# Altium footprint library ECA Capacitor Radial.PcbLib: 13 footprints
Each footprint in its own frame and in the unit in brackets; x right, y up, seen from the top. Pads: shape width x height; smd on the part's side, far side on the other; paste and mask are expansions set on the pad; w line width, h text height; cw(c..) or ccw(c..) is an arc to the next point about the centre after c.
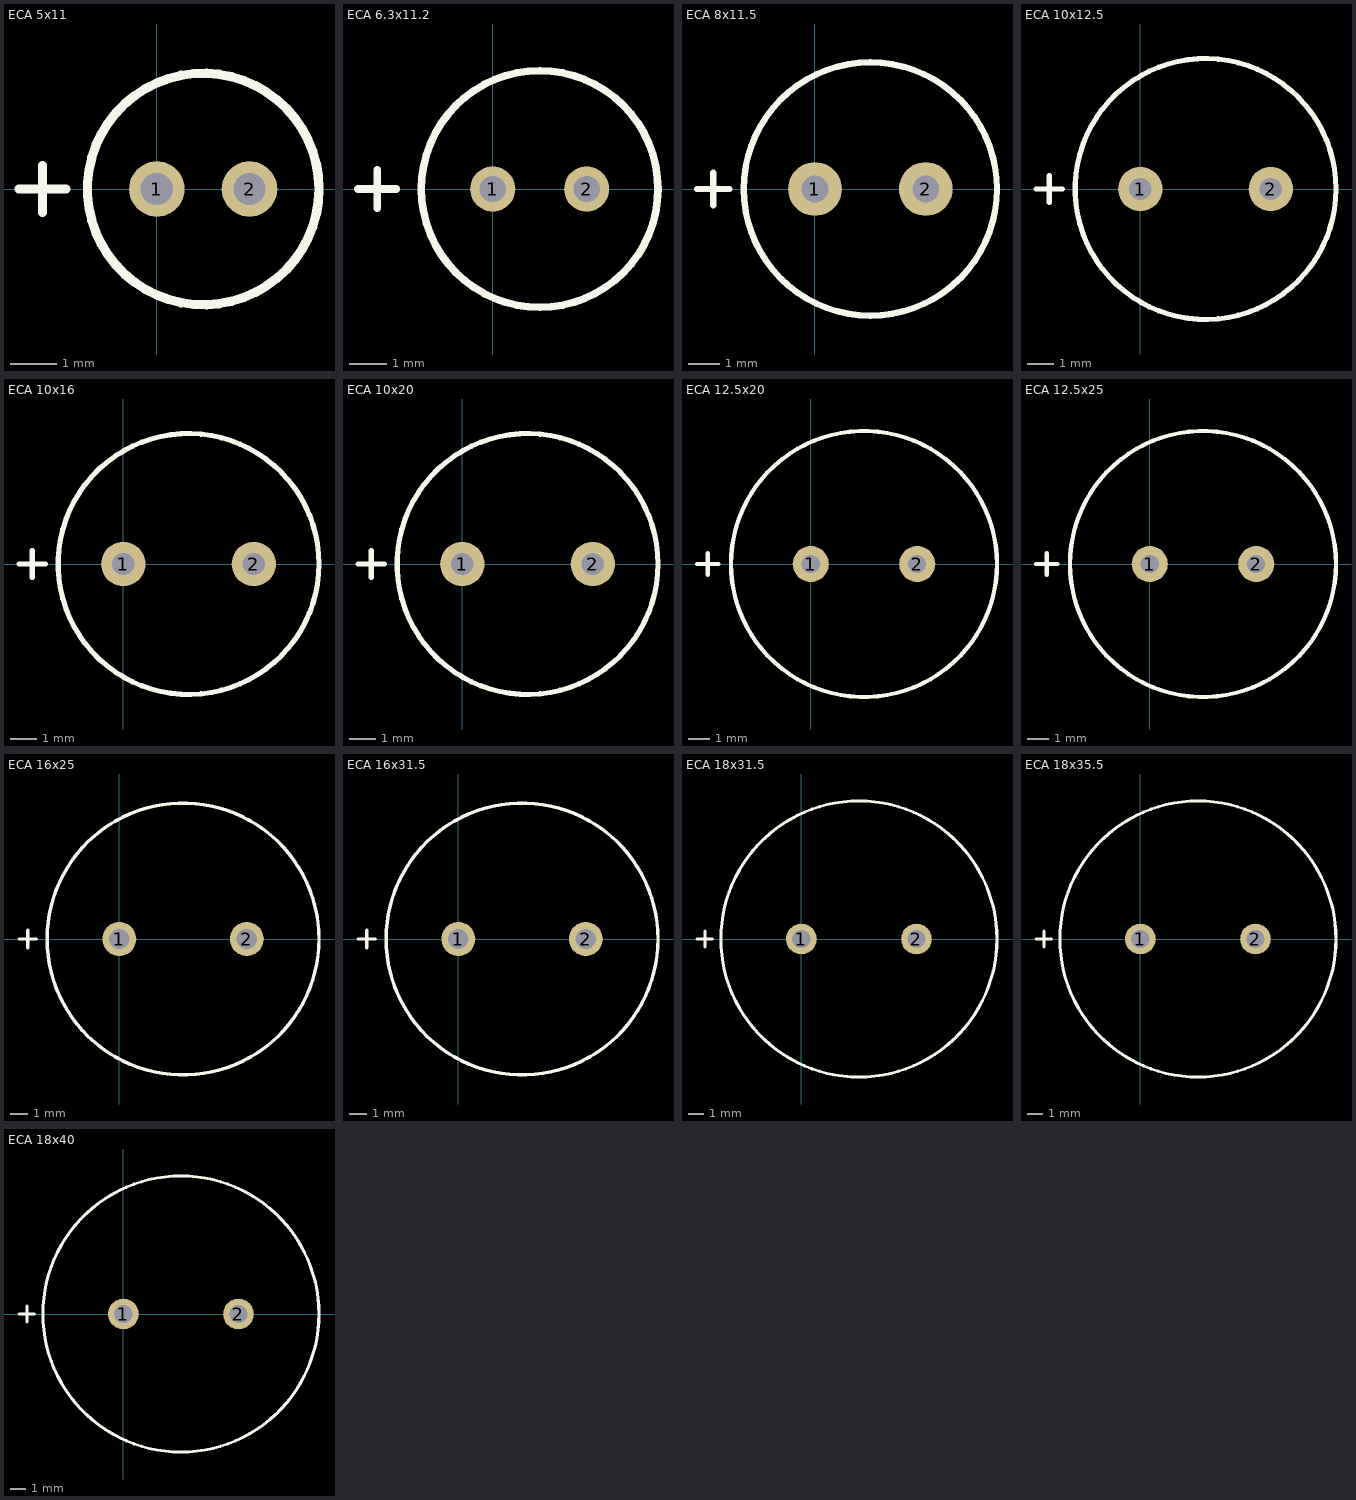
[diagram p0: the footprints below, top view; thin cyan lines are the x and y axes]

## ECA 5x11 [mm]
pads (2):
  round 1.2 hole 0.7: 1(0,0) 2(2,0)
Top Overlay:
  circle w0.2: c1,0 r2.5
  lines w0.2: -2.977,0 -1.961,0 ; -2.469,-0.508 -2.469,0.508
3D body: height 11, standoff 0, extent -1.512,-2.512 3.512,2.512

## ECA 6.3x11.2 [mm]
pads (2):
  round 1.2 hole 0.7: 1(0,0) 2(2.5,0)
Top Overlay:
  circle w0.2: c1.25,0 r3.15
  lines w0.2: -3.586,0 -2.57,0 ; -3.078,-0.508 -3.078,0.508
3D body: height 11.2, standoff 0, extent -1.909,-3.159 4.409,3.159

## ECA 8x11.5 [mm]
pads (2):
  round 1.7 hole 0.85: 1(0,0) 2(3.5,0)
Top Overlay:
  circle w0.2: c1.75,0 r4
  lines w0.2: -3.725,0 -2.709,0 ; -3.217,-0.508 -3.217,0.508
3D body: height 11.5, standoff 0, extent -2.262,-4.012 5.762,4.012

## ECA 10x12.5 [mm]
pads (2):
  round 1.7 hole 0.85: 1(0,0) 2(5,0)
Top Overlay:
  circle w0.2: c2.5,0 r5
  lines w0.2: -3.997,0 -2.981,0 ; -3.489,-0.508 -3.489,0.508
3D body: height 12.5, standoff 0, extent -2.51,-5.01 7.51,5.01

## ECA 10x16 [mm]
pads (2):
  round 1.7 hole 0.85: 1(0,0) 2(5,0)
Top Overlay:
  circle w0.2: c2.5,0 r5
  lines w0.2: -3.997,0 -2.981,0 ; -3.489,-0.508 -3.489,0.508
3D body: height 16, standoff 0, extent -2.51,-5.01 7.51,5.01

## ECA 10x20 [mm]
pads (2):
  round 1.7 hole 0.85: 1(0,0) 2(5,0)
Top Overlay:
  circle w0.2: c2.5,0 r5
  lines w0.2: -3.997,0 -2.981,0 ; -3.489,-0.508 -3.489,0.508
3D body: height 20, standoff 0, extent -2.51,-5.01 7.51,5.01

## ECA 12.5x20 [mm]
pads (2):
  round 1.7 hole 0.85: 1(0,0) 2(5,0)
Top Overlay:
  circle w0.2: c2.5,0 r6.25
  lines w0.2: -5.347,0 -4.331,0 ; -4.839,-0.508 -4.839,0.508
3D body: height 20, standoff 0, extent -3.759,-6.259 8.759,6.259

## ECA 12.5x25 [mm]
pads (2):
  round 1.7 hole 0.85: 1(0,0) 2(5,0)
Top Overlay:
  circle w0.2: c2.5,0 r6.25
  lines w0.2: -5.347,0 -4.331,0 ; -4.839,-0.508 -4.839,0.508
3D body: height 25, standoff 0, extent -3.759,-6.259 8.759,6.259

## ECA 16x25 [mm]
pads (2):
  round 2 hole 1.2: 1(0,0) 2(7.5,0)
Top Overlay:
  circle w0.2: c3.75,0 r8
  lines w0.2: -5.903,0 -4.887,0 ; -5.395,-0.508 -5.395,0.508
3D body: height 25, standoff 0, extent -4.262,-8.012 11.762,8.012

## ECA 16x31.5 [mm]
pads (2):
  round 2 hole 1.2: 1(0,0) 2(7.5,0)
Top Overlay:
  circle w0.2: c3.75,0 r8
  lines w0.2: -5.903,0 -4.887,0 ; -5.395,-0.508 -5.395,0.508
3D body: height 31.5, standoff 0, extent -4.262,-8.012 11.762,8.012

## ECA 18x31.5 [mm]
pads (2):
  round 2 hole 1.2: 1(0,0) 2(7.5,0)
Top Overlay:
  circle w0.2: c3.75,0 r9
  lines w0.2: -6.808,0 -5.792,0 ; -6.3,-0.508 -6.3,0.508
3D body: height 31.5, standoff 0, extent -5.26,-9.01 12.76,9.01

## ECA 18x35.5 [mm]
pads (2):
  round 2 hole 1.2: 1(0,0) 2(7.5,0)
Top Overlay:
  circle w0.2: c3.75,0 r9
  lines w0.2: -6.808,0 -5.792,0 ; -6.3,-0.508 -6.3,0.508
3D body: height 35.5, standoff 0, extent -5.26,-9.01 12.76,9.01

## ECA 18x40 [mm]
pads (2):
  round 2 hole 1.2: 1(0,0) 2(7.5,0)
Top Overlay:
  circle w0.2: c3.75,0 r9
  lines w0.2: -6.808,0 -5.792,0 ; -6.3,-0.508 -6.3,0.508
3D body: height 40, standoff 0, extent -5.26,-9.01 12.76,9.01